# EAGLE library part AD8606_OPAMP (library CC2530_PCB_TL - Backup Copy - DO NOT EDIT)
OPAMP AD8606ARMZ-REEL
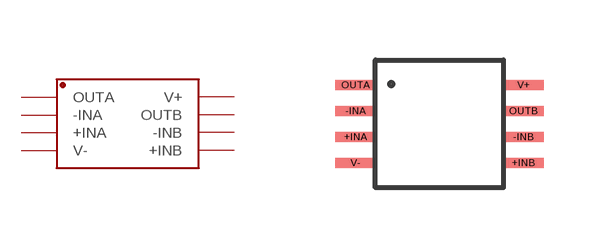
[diagram p8: symbol with the pads of AD8606_OPAMP; footprint AD8606_OPAMP]

Designator prefix -

## AD8606_OPAMP  [AD8606_OPAMP]
+INA  +INA
+INB  +INB
-INA  -INA
-INB  -INB
OUTA  OUTA
OUTB  OUTB
V+  V+  pwr
V-  V-  pwr

## Footprint AD8606_OPAMP (pad centres in mm)
OPAMP AD8606ARMZ-REEL
smd 1 x 0.25: +INA -2.1,-0.325; +INB 2.1,-0.975; -INA -2.1,0.325; -INB 2.1,-0.325; OUTA -2.1,0.975; OUTB 2.1,0.325; V+ 2.1,0.975; V- -2.1,-0.975